# Altium footprint library Package_SON.PcbLib: 75 footprints (part 2 of 5)
Each footprint in its own frame and in the unit in brackets; x right, y up, seen from the top. Pads: shape width x height; smd on the part's side, far side on the other; paste and mask are expansions set on the pad; w line width, h text height; cw(c..) or ccw(c..) is an arc to the next point about the centre after c.
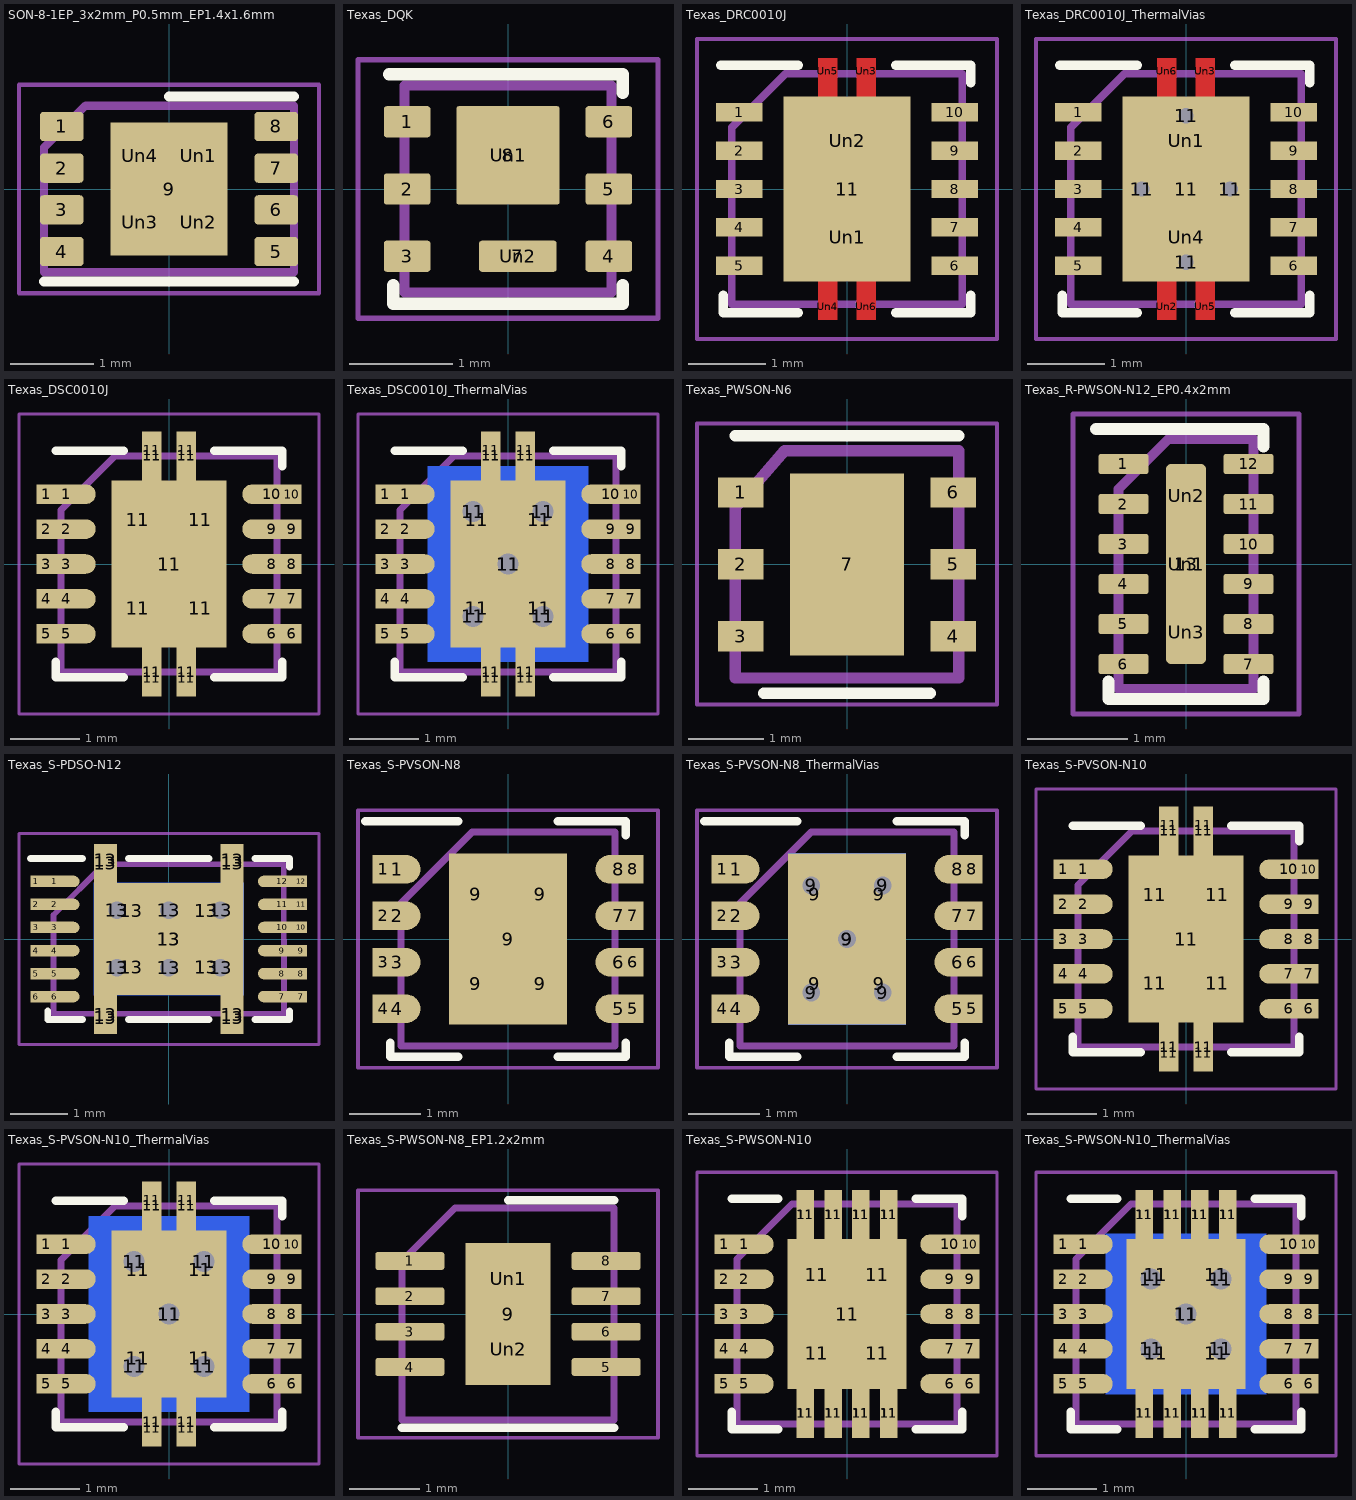
[diagram p1: the footprints below, top view; thin cyan lines are the x and y axes]

## SON-8-1EP_3x2mm_P0.5mm_EP1.4x1.6mm [mm]
pads (13):
  rrect25% 0.525x0.35 smd: 1(-1.288,0.75) 2(-1.288,0.25) 3(-1.288,-0.25) 4(-1.288,-0.75) 5(1.288,-0.75) 6(1.288,-0.25) 7(1.288,0.25) 8(1.288,0.75)
  rect 1.4x1.6 smd: 9(0,0)
  rrect25% 0.56x0.64 on Top Paste: Un1(0.35,0.4) Un2(0.35,-0.4) Un3(-0.35,-0.4) Un4(-0.35,0.4)
F.SilkS:
  lines w0.12: -1.5,-1.11 1.5,-1.11 ; 0,1.11 1.5,1.11
F.CrtYd:
  lines w0.05: -1.8,-1.25 -1.8,1.25 1.8,1.25 1.8,-1.25 -1.8,-1.25
F.Fab:
  lines w0.1: -1.5,-1 1.5,-1 1.5,1 -1,1 -1.5,0.5 -1.5,-1
  text "'.Designator'" at -3.033,-0.628 h0.75

## Texas_DQK [mm]
pads (10):
  rrect17% 0.45x0.3 smd: 1(-0.975,0.65) 2(-0.975,0) 3(-0.975,-0.65) 4(0.975,-0.65) 5(0.975,0) 6(0.975,0.65)
  rrect17% 0.75x0.3 smd: 7(0.095,-0.65)
  rrect5% 1x0.95 smd: 8(0,0.325)
  rrect6% 0.9x0.86 on Top Paste: Un1(0,0.325)
  rrect17% 0.7x0.29 on Top Paste: Un2(0.095,-0.65)
F.SilkS:
  lines w0.12: -1.15,1.11 1.11,1.11 1.11,0.93 ; -1.11,-0.93 -1.11,-1.11 1.11,-1.11 1.11,-0.93
F.CrtYd:
  lines w0.05: -1.45,-1.25 -1.45,1.25 1.45,1.25 1.45,-1.25 -1.45,-1.25
F.Fab:
  lines w0.1: -1,-1 1,-1 1,1 -1,1 -1,-1
  text "'.Designator'" at -2.023,-0.42 h0.5

## Texas_DRC0010J [mm]
pads (17):
  rect 0.6x0.24 smd: 1(-1.4,1) 2(-1.4,0.5) 3(-1.4,0) 4(-1.4,-0.5) 5(-1.4,-1) 6(1.4,-1) 7(1.4,-0.5) 8(1.4,0) 9(1.4,0.5) 10(1.4,1)
  rect 1.65x2.4 smd: 11(0,0)
  rrect10% 1.5x1.06 on Top Paste: Un1(0,-0.63) Un2(0,0.63)
  rrect10% 0.25x0.34 on Top Paste: Un3(0.25,1.53) Un4(-0.25,-1.53) Un5(-0.25,1.53) Un6(0.25,-1.53)
F.Cu:
  region: 0.375,-1.7 0.125,-1.7 0.125,-1.1 -0.125,-1.1 -0.125,-1.7 -0.375,-1.7 -0.375,1.7 -0.125,1.7 -0.125,1.1 0.125,1.1 0.125,1.7 0.375,1.7
F.SilkS:
  lines w0.12: -1.64,1.61 -0.635,1.61 ; -1.61,-1.38 -1.61,-1.61 -0.635,-1.61 ; 0.635,-1.61 1.61,-1.61 1.61,-1.38 ; 0.635,1.61 1.61,1.61 1.61,1.38
F.Mask:
  region: 0.375,-1.7 0.125,-1.7 0.125,-1.1 -0.125,-1.1 -0.125,-1.7 -0.375,-1.7 -0.375,1.7 -0.125,1.7 -0.125,1.1 0.125,1.1 0.125,1.7 0.375,1.7
F.CrtYd:
  lines w0.05: -1.95,-1.95 1.95,-1.95 1.95,1.95 -1.95,1.95 -1.95,-1.95
F.Fab:
  lines w0.1: -1.5,-1.5 1.5,-1.5 1.5,1.5 -0.8,1.5 -1.5,0.8 -1.5,-1.5
  text "'.Designator'" at -2.828,-0.583 h0.7

## Texas_DRC0010J_ThermalVias [mm]
pads (21):
  rect 0.6x0.24 smd: 1(-1.4,1) 2(-1.4,0.5) 3(-1.4,0) 4(-1.4,-0.5) 5(-1.4,-1) 6(1.4,-1) 7(1.4,-0.5) 8(1.4,0) 9(1.4,0.5) 10(1.4,1)
  round 0.5 hole 0.2: 11(-0.575,0) 11(0,-0.95) 11(0,0.95) 11(0.575,0)
  rect 1.65x2.4 smd: 11(0,0)
  rrect10% 1.5x1.06 on Top Paste: Un1(0,0.63) Un4(0,-0.63)
  rrect10% 0.25x0.34 on Top Paste: Un2(-0.25,-1.53) Un3(0.25,1.53) Un5(0.25,-1.53) Un6(-0.25,1.53)
F.Cu:
  region: 0.375,-1.7 0.125,-1.7 0.125,-1.1 -0.125,-1.1 -0.125,-1.7 -0.375,-1.7 -0.375,1.7 -0.125,1.7 -0.125,1.1 0.125,1.1 0.125,1.7 0.375,1.7
F.SilkS:
  lines w0.12: -1.64,1.61 -0.635,1.61 ; -1.61,-1.38 -1.61,-1.61 -0.635,-1.61 ; 0.635,-1.61 1.61,-1.61 1.61,-1.38 ; 0.635,1.61 1.61,1.61 1.61,1.38
F.Mask:
  region: 0.375,-1.7 0.125,-1.7 0.125,-1.1 -0.125,-1.1 -0.125,-1.7 -0.375,-1.7 -0.375,1.7 -0.125,1.7 -0.125,1.1 0.125,1.1 0.125,1.7 0.375,1.7
F.CrtYd:
  lines w0.05: -1.95,-1.95 1.95,-1.95 1.95,1.95 -1.95,1.95 -1.95,-1.95
F.Fab:
  lines w0.1: -1.5,-1.5 1.5,-1.5 1.5,1.5 -0.8,1.5 -1.5,0.8 -1.5,-1.5
  text "'.Designator'" at -2.828,-0.583 h0.7

## Texas_DSC0010J [mm]
pads (33):
  rect 0.28x0.28 smd: 1(-1.76,1) 2(-1.76,0.5) 3(-1.76,0) 4(-1.76,-0.5) 5(-1.76,-1) 6(1.76,-1) 7(1.76,-0.5) 8(1.76,0) 9(1.76,0.5) 10(1.76,1)
  rrect100% 0.85x0.28 smd: 1(-1.475,1) 2(-1.475,0.5) 3(-1.475,0) 4(-1.475,-0.5) 5(-1.475,-1) 6(1.475,-1) 7(1.475,-0.5) 8(1.475,0) 9(1.475,0.5) 10(1.475,1)
  rect 0.68x1.05 smd: 11(-0.45,-0.635) 11(-0.45,0.635) 11(0.45,-0.635) 11(0.45,0.635)
  rect 0.26x0.5 smd: 11(-0.25,-1.63) 11(-0.25,1.63) 11(0.25,-1.63) 11(0.25,1.63)
  rect 0.28x0.7 smd: 11(-0.25,-1.55) 11(-0.25,1.55) 11(0.25,-1.55) 11(0.25,1.55)
  rect 1.65x2.4 smd: 11(0,0)
F.SilkS:
  lines w0.12: -1.625,-1.4 -1.625,-1.625 -0.65,-1.625 ; -1.625,1.625 -0.65,1.625 ; 0.65,-1.625 1.625,-1.625 1.625,-1.4 ; 0.65,1.625 1.625,1.625 1.625,1.4
F.CrtYd:
  lines w0.05: -2.15,-2.15 -2.15,2.15 2.15,2.15 2.15,-2.15 -2.15,-2.15
F.Fab:
  lines w0.1: -1.55,-1.55 -1.55,0.775 -0.775,1.55 1.55,1.55 1.55,-1.55 -1.55,-1.55
  text "'.Designator'" at -2.828,-0.583 h0.7

## Texas_DSC0010J_ThermalVias [mm]
pads (39):
  rect 0.28x0.28 smd: 1(-1.76,1) 2(-1.76,0.5) 3(-1.76,0) 4(-1.76,-0.5) 5(-1.76,-1) 6(1.76,-1) 7(1.76,-0.5) 8(1.76,0) 9(1.76,0.5) 10(1.76,1)
  rrect100% 0.85x0.28 smd: 1(-1.475,1) 2(-1.475,0.5) 3(-1.475,0) 4(-1.475,-0.5) 5(-1.475,-1) 6(1.475,-1) 7(1.475,-0.5) 8(1.475,0) 9(1.475,0.5) 10(1.475,1)
  round 0.6 hole 0.3: 11(-0.5,-0.75) 11(-0.5,0.75) 11(0,0) 11(0.5,-0.75) 11(0.5,0.75)
  rect 0.68x1.05 smd: 11(-0.45,-0.635) 11(-0.45,0.635) 11(0.45,-0.635) 11(0.45,0.635)
  rect 0.26x0.5 smd: 11(-0.25,-1.63) 11(-0.25,1.63) 11(0.25,-1.63) 11(0.25,1.63)
  rect 0.28x0.7 smd: 11(-0.25,-1.55) 11(-0.25,1.55) 11(0.25,-1.55) 11(0.25,1.55)
  rect 1.65x2.4 smd: 11(0,0)
  rect 2.3x2.8 smd far side: 11(0,0)
F.SilkS:
  lines w0.12: -1.625,-1.4 -1.625,-1.625 -0.65,-1.625 ; -1.625,1.625 -0.65,1.625 ; 0.65,-1.625 1.625,-1.625 1.625,-1.4 ; 0.65,1.625 1.625,1.625 1.625,1.4
F.CrtYd:
  lines w0.05: -2.15,-2.15 2.15,-2.15 2.15,2.15 -2.15,2.15 -2.15,-2.15
F.Fab:
  lines w0.1: -1.55,-1.55 1.55,-1.55 1.55,1.55 -0.775,1.55 -1.55,0.775 -1.55,-1.55
  text "'.Designator'" at -2.828,-0.583 h0.7

## Texas_PWSON-N6 [mm]
pads (7):
  rect 0.6x0.4 smd: 1(-1.4,0.95) 2(-1.4,0) 3(-1.4,-0.95) 4(1.4,-0.95) 5(1.4,0) 6(1.4,0.95)
  rect 1.5x2.4 smd: 7(0,0)
F.SilkS:
  lines w0.15: -1.475,1.7 1.475,1.7 ; -1.1,-1.7 1.1,-1.7
F.CrtYd:
  lines w0.05: -1.98,1.85 -1.98,-1.85 1.98,-1.85 1.98,1.85 ; -1.98,1.86 1.98,1.86
F.Fab:
  lines w0.15: -1.475,-1.5 -1.475,0.75 -0.825,1.5 1.475,1.5 1.475,-1.5 -1.475,-1.5
  text "'.Designator'" at -2.048,-0.445 h0.5

## Texas_R-PWSON-N12_EP0.4x2mm [mm]
pads (16):
  rrect25% 0.5x0.2 smd: 1(-0.625,1) 2(-0.625,0.6) 3(-0.625,0.2) 4(-0.625,-0.2) 5(-0.625,-0.6) 6(-0.625,-1) 7(0.625,-1) 8(0.625,-0.6) 9(0.625,-0.2) 10(0.625,0.2) 11(0.625,0.6) 12(0.625,1)
  rrect25% 0.4x2 smd: 13(0,0)
  rrect25% 0.3x0.55 on Top Paste: Un1(0,0) Un2(0,0.68) Un3(0,-0.68)
F.SilkS:
  lines w0.12: -0.9,1.35 0.775,1.35 0.775,1.175 ; -0.775,-1.175 -0.775,-1.35 0.775,-1.35 0.775,-1.175
F.CrtYd:
  lines w0.05: -1.13,-1.5 -1.13,1.5 1.13,1.5 1.13,-1.5 -1.13,-1.5
F.Fab:
  lines w0.1: -0.675,-1.25 -0.675,0.75 -0.175,1.25 0.675,1.25 0.675,-1.25 -0.675,-1.25
  text "'.Designator'" at 0.47,-2.023 h0.5

## Texas_S-PDSO-N12 [mm]
pads (44):
  rect 0.2x0.2 smd: 1(-2.3,1) 2(-2.3,0.6) 3(-2.3,0.2) 4(-2.3,-0.2) 5(-2.3,-0.6) 6(-2.3,-1) 7(2.3,-1) 8(2.3,-0.6) 9(2.3,-0.2) 10(2.3,0.2) 11(2.3,0.6) 12(2.3,1)
  rrect100% 0.85x0.2 smd: 1(-1.975,1) 2(-1.975,0.6) 3(-1.975,0.2) 4(-1.975,-0.2) 5(-1.975,-0.6) 6(-1.975,-1) 7(1.975,-1) 8(1.975,-0.6) 9(1.975,-0.2) 10(1.975,0.2) 11(1.975,0.6) 12(1.975,1)
  rect 0.4x0.575 smd: 13(-1.1,-1.365) 13(-1.1,1.365) 13(1.1,-1.365) 13(1.1,1.365)
  rect 0.4x0.675 smd: 13(-1.1,-1.312) 13(-1.1,1.312) 13(1.1,-1.312) 13(1.1,1.312)
  round 0.6 hole 0.3: 13(-0.9,-0.5) 13(-0.9,0.5) 13(0,-0.5) 13(0,0.5) 13(0.9,-0.5) 13(0.9,0.5)
  rect 1.3x0.975 smd: 13(-0.65,-0.487) 13(-0.65,0.487) 13(0.65,-0.487) 13(0.65,0.487)
  rect 2.6x1.95 smd: 13(0,0)
  rect 2.6x1.95 smd far side: 13(0,0)
F.SilkS:
  lines w0.12: -2.401,1.397 -1.501,1.397 ; -2.1,-1.25 -2.1,-1.4 -1.5,-1.4 ; -0.7,-1.4 0.7,-1.4 ; -0.7,1.4 0.7,1.4 ; 1.5,-1.4 2.1,-1.4 2.1,-1.25 ; 1.5,1.4 2.1,1.4 2.1,1.25
F.CrtYd:
  lines w0.05: 2.61,-1.83 -2.6,-1.83 -2.6,1.83 2.61,1.83 2.61,-1.82
F.Fab:
  lines w0.1: -2,-1.3 -2.001,0.417 -1.121,1.297 1.999,1.297 2,-1.3 -2,-1.3
  text "'.Designator'" at -4.047,-0.843 h1

## Texas_S-PVSON-N8 [mm]
pads (21):
  rect 0.3x0.4 smd: 1(-1.75,0.975) 2(-1.75,0.325) 3(-1.75,-0.325) 4(-1.75,-0.975) 5(1.75,-0.975) 6(1.75,-0.325) 7(1.75,0.325) 8(1.75,0.975)
  rrect100% 0.65x0.4 smd: 1(-1.55,0.975) 2(-1.55,0.325) 3(-1.55,-0.325) 4(-1.55,-0.975) 5(1.55,-0.975) 6(1.55,-0.325) 7(1.55,0.325) 8(1.55,0.975)
  rect 0.65x1 smd: 9(-0.45,-0.625) 9(-0.45,0.625) 9(0.45,-0.625) 9(0.45,0.625)
  rect 1.65x2.4 smd: 9(0,0)
F.SilkS:
  lines w0.12: -2,1.65 -0.7,1.65 ; -1.65,-1.45 -1.65,-1.65 -0.7,-1.65 ; 0.7,-1.65 1.65,-1.65 1.65,-1.45 ; 0.7,1.65 1.65,1.65 1.65,1.45
F.CrtYd:
  lines w0.05: -2.1,-1.8 2.1,-1.8 2.1,1.8 -2.1,1.8 -2.1,-1.8
F.Fab:
  lines w0.1: -1.5,-1.5 -1.5,0.5 -0.5,1.5 1.5,1.5 1.5,-1.5 -1.5,-1.5
  text "'.Designator'" at -2.828,-0.583 h0.7

## Texas_S-PVSON-N8_ThermalVias [mm]
pads (27):
  rect 0.3x0.4 smd: 1(-1.75,0.975) 2(-1.75,0.325) 3(-1.75,-0.325) 4(-1.75,-0.975) 5(1.75,-0.975) 6(1.75,-0.325) 7(1.75,0.325) 8(1.75,0.975)
  rrect100% 0.65x0.4 smd: 1(-1.55,0.975) 2(-1.55,0.325) 3(-1.55,-0.325) 4(-1.55,-0.975) 5(1.55,-0.975) 6(1.55,-0.325) 7(1.55,0.325) 8(1.55,0.975)
  round 0.6 hole 0.25: 9(-0.5,-0.75) 9(-0.5,0.75) 9(0,0) 9(0.5,-0.75) 9(0.5,0.75)
  rect 0.65x1 smd: 9(-0.45,-0.625) 9(-0.45,0.625) 9(0.45,-0.625) 9(0.45,0.625)
  rect 1.65x2.4 smd far side: 9(0,0)
  rect 1.65x2.4 smd: 9(0,0)
F.SilkS:
  lines w0.12: -2,1.65 -0.7,1.65 ; -1.65,-1.45 -1.65,-1.65 -0.7,-1.65 ; 0.7,-1.65 1.65,-1.65 1.65,-1.45 ; 0.7,1.65 1.65,1.65 1.65,1.45
F.CrtYd:
  lines w0.05: -2.1,-1.8 2.1,-1.8 2.1,1.8 -2.1,1.8 -2.1,-1.8
F.Fab:
  lines w0.1: -1.5,-1.5 1.5,-1.5 1.5,1.5 -0.5,1.5 -1.5,0.5 -1.5,-1.5
  text "'.Designator'" at -2.828,-0.583 h0.7

## Texas_S-PVSON-N10 [mm]
pads (33):
  rect 0.28x0.28 smd: 1(-1.76,1) 2(-1.76,0.5) 3(-1.76,0) 4(-1.76,-0.5) 5(-1.76,-1) 6(1.76,-1) 7(1.76,-0.5) 8(1.76,0) 9(1.76,0.5) 10(1.76,1)
  rrect100% 0.85x0.28 smd: 1(-1.475,1) 2(-1.475,0.5) 3(-1.475,0) 4(-1.475,-0.5) 5(-1.475,-1) 6(1.475,-1) 7(1.475,-0.5) 8(1.475,0) 9(1.475,0.5) 10(1.475,1)
  rect 0.68x1.05 smd: 11(-0.45,-0.635) 11(-0.45,0.635) 11(0.45,-0.635) 11(0.45,0.635)
  rect 0.26x0.5 smd: 11(-0.25,-1.63) 11(-0.25,1.63) 11(0.25,-1.63) 11(0.25,1.63)
  rect 0.28x0.7 smd: 11(-0.25,-1.55) 11(-0.25,1.55) 11(0.25,-1.55) 11(0.25,1.55)
  rect 1.65x2.4 smd: 11(0,0)
F.SilkS:
  lines w0.12: -1.625,-1.4 -1.625,-1.625 -0.65,-1.625 ; -1.625,1.625 -0.65,1.625 ; 0.65,-1.625 1.625,-1.625 1.625,-1.4 ; 0.65,1.625 1.625,1.625 1.625,1.4
F.CrtYd:
  lines w0.05: -2.15,-2.15 2.15,-2.15 2.15,2.15 -2.15,2.15 -2.15,-2.15
F.Fab:
  lines w0.1: -1.55,-1.55 -1.55,0.775 -0.775,1.55 1.55,1.55 1.55,-1.55 -1.55,-1.55
  text "'.Designator'" at -2.828,-0.583 h0.7

## Texas_S-PVSON-N10_ThermalVias [mm]
pads (39):
  rect 0.28x0.28 smd: 1(-1.76,1) 2(-1.76,0.5) 3(-1.76,0) 4(-1.76,-0.5) 5(-1.76,-1) 6(1.76,-1) 7(1.76,-0.5) 8(1.76,0) 9(1.76,0.5) 10(1.76,1)
  rrect100% 0.85x0.28 smd: 1(-1.475,1) 2(-1.475,0.5) 3(-1.475,0) 4(-1.475,-0.5) 5(-1.475,-1) 6(1.475,-1) 7(1.475,-0.5) 8(1.475,0) 9(1.475,0.5) 10(1.475,1)
  round 0.6 hole 0.3: 11(-0.5,-0.75) 11(-0.5,0.75) 11(0,0) 11(0.5,-0.75) 11(0.5,0.75)
  rect 0.68x1.05 smd: 11(-0.45,-0.635) 11(-0.45,0.635) 11(0.45,-0.635) 11(0.45,0.635)
  rect 0.26x0.5 smd: 11(-0.25,-1.63) 11(-0.25,1.63) 11(0.25,-1.63) 11(0.25,1.63)
  rect 0.28x0.7 smd: 11(-0.25,-1.55) 11(-0.25,1.55) 11(0.25,-1.55) 11(0.25,1.55)
  rect 2.3x2.8 smd far side: 11(0,0)
  rect 1.65x2.4 smd: 11(0,0)
F.SilkS:
  lines w0.12: -1.625,-1.4 -1.625,-1.625 -0.65,-1.625 ; -1.625,1.625 -0.65,1.625 ; 0.65,-1.625 1.625,-1.625 1.625,-1.4 ; 0.65,1.625 1.625,1.625 1.625,1.4
F.CrtYd:
  lines w0.05: -2.15,-2.15 -2.15,2.15 2.15,2.15 2.15,-2.15 -2.15,-2.15
F.Fab:
  lines w0.1: -1.55,-1.55 -1.55,0.775 -0.775,1.55 1.55,1.55 1.55,-1.55 -1.55,-1.55
  text "'.Designator'" at -2.828,-0.583 h0.7

## Texas_S-PWSON-N8_EP1.2x2mm [mm]
pads (11):
  rrect25% 0.975x0.25 smd: 1(-1.388,0.75) 2(-1.388,0.25) 3(-1.388,-0.25) 4(-1.388,-0.75) 5(1.388,-0.75) 6(1.388,-0.25) 7(1.388,0.25) 8(1.388,0.75)
  rect 1.2x2 smd: 9(0,0)
  rrect25% 0.97x0.81 on Top Paste: Un1(0,0.5) Un2(0,-0.5)
F.SilkS:
  lines w0.12: -1.5,-1.61 1.5,-1.61 ; 0,1.61 1.5,1.61
F.CrtYd:
  lines w0.05: -2.12,-1.75 -2.12,1.75 2.12,1.75 2.12,-1.75 -2.12,-1.75
F.Fab:
  lines w0.1: -1.5,-1.5 1.5,-1.5 1.5,1.5 -0.75,1.5 -1.5,0.75 -1.5,-1.5
  text "'.Designator'" at -3.033,-0.628 h0.75

## Texas_S-PWSON-N10 [mm]
pads (41):
  rect 0.28x0.28 smd: 1(-1.76,1) 2(-1.76,0.5) 3(-1.76,0) 4(-1.76,-0.5) 5(-1.76,-1) 6(1.76,-1) 7(1.76,-0.5) 8(1.76,0) 9(1.76,0.5) 10(1.76,1)
  rrect100% 0.85x0.28 smd: 1(-1.475,1) 2(-1.475,0.5) 3(-1.475,0) 4(-1.475,-0.5) 5(-1.475,-1) 6(1.475,-1) 7(1.475,-0.5) 8(1.475,0) 9(1.475,0.5) 10(1.475,1)
  rect 0.25x0.7 smd: 11(-0.6,-1.425) 11(-0.6,1.425) 11(-0.2,-1.425) 11(-0.2,1.425) 11(0.2,-1.425) 11(0.2,1.425) 11(0.6,-1.425) 11(0.6,1.425)
  rect 0.23x0.6 smd: 11(-0.6,-1.425) 11(-0.6,1.425) 11(-0.2,-1.425) 11(-0.2,1.425) 11(0.2,-1.425) 11(0.2,1.425) 11(0.6,-1.425) 11(0.6,1.425)
  rect 0.65x0.9 smd: 11(-0.435,-0.56) 11(-0.435,0.56) 11(0.435,-0.56) 11(0.435,0.56)
  rect 1.7x2.15 smd: 11(0,0)
F.SilkS:
  lines w0.12: -1.65,-1.4 -1.65,-1.65 -0.985,-1.65 ; -1.65,1.65 -0.985,1.65 ; 0.985,-1.65 1.65,-1.65 1.65,-1.4 ; 0.985,1.65 1.65,1.65 1.65,1.4
F.CrtYd:
  lines w0.05: -2.15,-2.03 2.15,-2.03 2.15,2.03 -2.15,2.03 -2.15,-2.03
F.Fab:
  lines w0.1: -1.575,-1.575 1.575,-1.575 1.575,1.575 -0.787,1.575 -1.575,0.787 -1.575,-1.575
  text "'.Designator'" at -2.428,-0.504 h0.6

## Texas_S-PWSON-N10_ThermalVias [mm]
pads (47):
  rect 0.28x0.28 smd: 1(-1.76,1) 2(-1.76,0.5) 3(-1.76,0) 4(-1.76,-0.5) 5(-1.76,-1) 6(1.76,-1) 7(1.76,-0.5) 8(1.76,0) 9(1.76,0.5) 10(1.76,1)
  rrect100% 0.85x0.28 smd: 1(-1.475,1) 2(-1.475,0.5) 3(-1.475,0) 4(-1.475,-0.5) 5(-1.475,-1) 6(1.475,-1) 7(1.475,-0.5) 8(1.475,0) 9(1.475,0.5) 10(1.475,1)
  rect 0.23x0.6 smd: 11(-0.6,-1.425) 11(-0.6,1.425) 11(-0.2,-1.425) 11(-0.2,1.425) 11(0.2,-1.425) 11(0.2,1.425) 11(0.6,-1.425) 11(0.6,1.425)
  rect 0.25x0.7 smd: 11(-0.6,-1.425) 11(-0.6,1.425) 11(-0.2,-1.425) 11(-0.2,1.425) 11(0.2,-1.425) 11(0.2,1.425) 11(0.6,-1.425) 11(0.6,1.425)
  round 0.6 hole 0.3: 11(-0.5,-0.5) 11(-0.5,0.5) 11(0,0) 11(0.5,-0.5) 11(0.5,0.5)
  rect 0.65x0.9 smd: 11(-0.435,-0.56) 11(-0.435,0.56) 11(0.435,-0.56) 11(0.435,0.56)
  rect 2.3x2.3 smd far side: 11(-0.001,0)
  rect 1.7x2.15 smd: 11(0,0)
F.SilkS:
  lines w0.12: -1.65,-1.4 -1.65,-1.65 -0.985,-1.65 ; -1.65,1.65 -0.985,1.65 ; 0.985,-1.65 1.65,-1.65 1.65,-1.4 ; 0.985,1.65 1.65,1.65 1.65,1.4
F.CrtYd:
  lines w0.05: -2.15,-2.03 2.15,-2.03 2.15,2.03 -2.15,2.03 -2.15,-2.03
F.Fab:
  lines w0.1: -1.575,-1.575 -1.575,0.787 -0.787,1.575 1.575,1.575 1.575,-1.575 -1.575,-1.575
  text "'.Designator'" at -2.428,-0.504 h0.6